# Altium footprint library SWITCH_TACT_PUSHB.PcbLib: 55 footprints (part 3 of 4)
Each footprint in its own frame and in the unit in brackets; x right, y up, seen from the top. Pads: shape width x height; smd on the part's side, far side on the other; paste and mask are expansions set on the pad; w line width, h text height; cw(c..) or ccw(c..) is an arc to the next point about the centre after c.
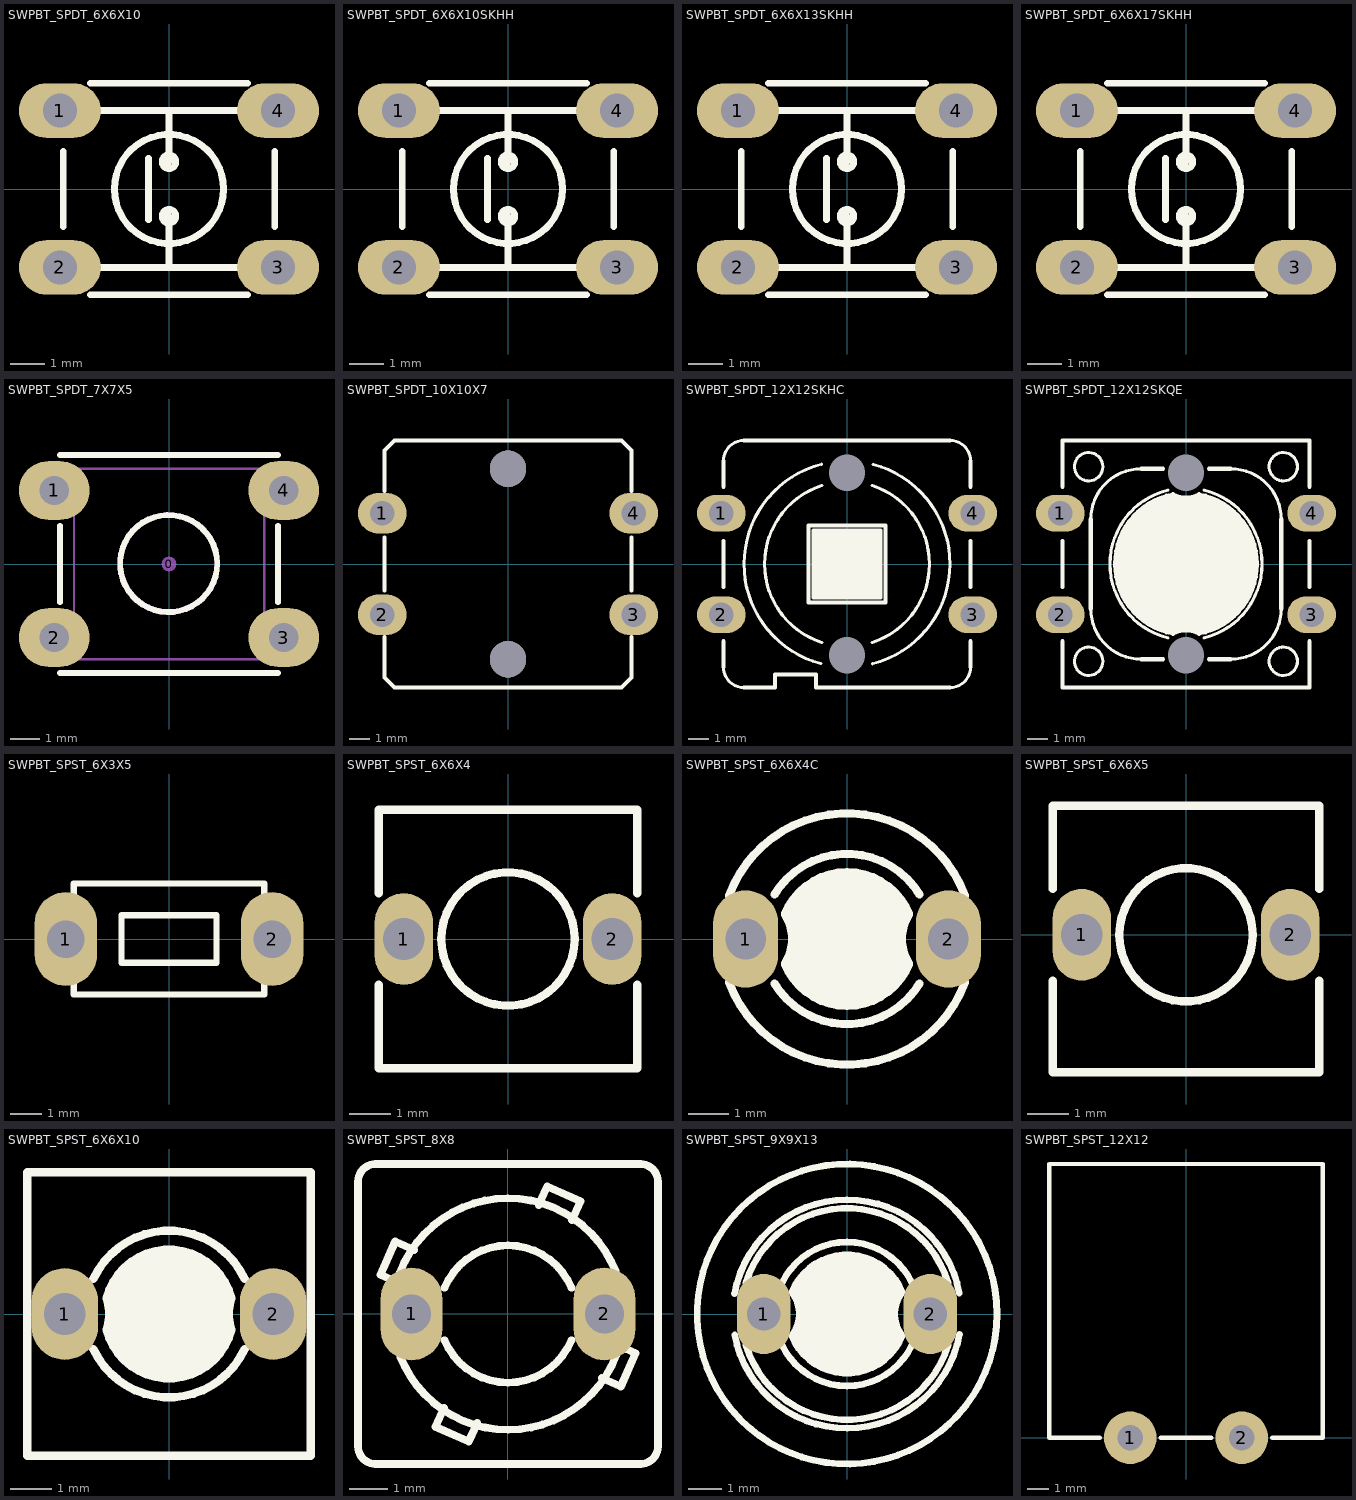
[diagram p2: the footprints below, top view; thin cyan lines are the x and y axes]

## SWPBT_SPDT_6X6X10 [mm] "SWITCH, PUSHBUTTON, THD, SPDT,"
pads (4):
  oval 2.4x1.6 hole 1 mask+0.1: 1(-3.2,2.3) 2(-3.2,-2.3) 3(3.2,-2.3) 4(3.2,2.3)
Top Overlay:
  circle w0.2: c0,-0.8 r0.2
  circle w0.2: c0,0.8 r0.2
  circle w0.2: c0,0 r1.6
  lines w0.2: -3.1,-1.1 -3.1,1.1 ; -2.3,-3.1 2.3,-3.1 ; -2.3,3.1 2.3,3.1 ; -2,-2.3 2,-2.3 ; -2,2.3 2,2.3 ; -0.6,-0.9 -0.6,0.9 ; 0,-2.3 0,-0.8 ; 0,0.8 0,2.3 ; 3.1,-1.1 3.1,1.1
3D body "SW3dPS-Panasonic-EVQPA-Pushbutton.STEP": height 9.5, standoff -3.5, extent -4.106,-3 4.106,3

## SWPBT_SPDT_6X6X10SKHH [mm] "SWITCH, PUSHBUTTON, THD, SPDT, 6X6X9.5 mm Height ; 1,000,000 cycles ; 0.98N Force, SKHHANA010"
height 9.5
pads (4):
  oval 2.4x1.6 hole 1 mask+0.1: 1(-3.2,2.3) 2(-3.2,-2.3) 3(3.2,-2.3) 4(3.2,2.3)
Top Overlay:
  circle w0.2: c0,-0.8 r0.2
  circle w0.2: c0,0.8 r0.2
  circle w0.2: c0,0 r1.6
  lines w0.2: -3.1,-1.1 -3.1,1.1 ; -2.3,-3.1 2.3,-3.1 ; -2.3,3.1 2.3,3.1 ; -2,-2.3 2,-2.3 ; -2,2.3 2,2.3 ; -0.6,-0.9 -0.6,0.9 ; 0,-2.3 0,-0.8 ; 0,0.8 0,2.3 ; 3.1,-1.1 3.1,1.1
3D body "SKHHAN.STEP": height 9.53, standoff -3.47, extent -3.95,-3.1 3.95,3.1

## SWPBT_SPDT_6X6X13SKHH [mm] "SWITCH, PUSHBUTTON, THD, SPDT, 6X6X13.0 mm Height; 1,000,000 cycles ; 0.98N Force, SKHHDTA010"
height 13
pads (4):
  oval 2.4x1.6 hole 1 mask+0.1: 1(-3.2,2.3) 2(-3.2,-2.3) 3(3.2,-2.3) 4(3.2,2.3)
Top Overlay:
  circle w0.2: c0,-0.8 r0.2
  circle w0.2: c0,0.8 r0.2
  circle w0.2: c0,0 r1.6
  lines w0.2: -3.1,-1.1 -3.1,1.1 ; -2.3,-3.1 2.3,-3.1 ; -2.3,3.1 2.3,3.1 ; -2,-2.3 2,-2.3 ; -2,2.3 2,2.3 ; -0.6,-0.9 -0.6,0.9 ; 0,-2.3 0,-0.8 ; 0,0.8 0,2.3 ; 3.1,-1.1 3.1,1.1
3D body "SKHHDT.STEP": height 13.03, standoff -3.47, extent -3.95,-3.1 3.95,3.1

## SWPBT_SPDT_6X6X17SKHH [mm] "SWITCH, PUSHBUTTON, THD, SPDT, 6X6X17.0 mm Height ; 500,000 cycles ; 0.98N Force, SKHHDHA010"
height 17
pads (4):
  oval 2.4x1.6 hole 1 mask+0.1: 1(-3.2,2.3) 2(-3.2,-2.3) 3(3.2,-2.3) 4(3.2,2.3)
Top Overlay:
  circle w0.2: c0,-0.8 r0.2
  circle w0.2: c0,0.8 r0.2
  circle w0.2: c0,0 r1.6
  lines w0.2: -3.1,-1.1 -3.1,1.1 ; -2.3,-3.1 2.3,-3.1 ; -2.3,3.1 2.3,3.1 ; -2,-2.3 2,-2.3 ; -2,2.3 2,2.3 ; -0.6,-0.9 -0.6,0.9 ; 0,-2.3 0,-0.8 ; 0,0.8 0,2.3 ; 3.1,-1.1 3.1,1.1
3D body "SKHHDH.STEP": height 17.03, standoff -3.47, extent -3.95,-3.1 3.95,3.1

## SWPBT_SPDT_7X7X5 [mm] "SWITCH, PUSHBUTTON, THD, SPDT, 7.2X7.2mm, TC-37XB"
height 5
pads (5):
  round 0.508 on Mech15 mask+0.1: 0(0,0)
  oval 2.4x2 hole 1 mask+0.1: 1(-3.9,2.5) 2(-3.9,-2.5) 3(3.9,-2.5) 4(3.9,2.5)
Top Overlay:
  circle w0.2: c-0.011,0.014 r1.65
  lines w0.2: -3.7,-3.7 3.7,-3.7 ; -3.7,-1.3 -3.7,1.3 ; -3.7,3.7 3.7,3.7 ; 3.7,-1.3 3.7,1.3
Mechanical 13:
  circle w0.2: c-0.011,0.014 r1.65
  lines w0.076: -3.232,-3.237 -3.232,3.24 3.24,3.24 3.24,-3.237 -3.232,-3.237
3D body "TC-37XB.stp": height 5, standoff -3.9, extent -4.456,-3.6 4.456,3.6

## SWPBT_SPDT_10X10X7 [mm] "SWITCH, PUSHBUTTON, THD, SPDT,"
pads (6):
  oval 2.4x2 hole 1.2 mask+0.1: 1(-6.2,2.5) 2(-6.2,-2.5) 3(6.2,-2.5) 4(6.2,2.5)
  round 1.8 hole 1.8 unplated: ""(0,-4.7) ""(0,4.7)
Top Overlay:
  lines w0.2: -6.1,-3.6 -6.1,-5.6 -5.6,-6.1 5.6,-6.1 6.1,-5.6 6.1,-3.6 ; -6.1,-1.3 -6.1,1.3 ; -6.1,3.6 -6.1,5.6 -5.6,6.1 5.6,6.1 6.1,5.6 6.1,3.6 ; 6.1,-1.3 6.1,1.3
3D body "User Library-SWT9-1.STEP": height 7.3, standoff -3.5, extent -6.5,-6 6.5,6

## SWPBT_SPDT_12X12SKHC [mm] "SWITCH, PUSHBUTTON, THD, SPDT, 12X12X7.3 mm ; 1,000,000 cycles ; 1.27N Force, SKHCBEA010"
height 7.3
pads (6):
  oval 2.4x1.8 hole 1.2 mask+0.1: 1(-6.2,2.5) 2(-6.2,-2.5) 3(6.2,-2.5) 4(6.2,2.5)
  round 0 hole 1.8 unplated mask+0.1: ""(0,-4.5) ""(0,4.5)
Top Overlay:
  region: -1.651,-1.651 -1.651,1.651 1.651,1.651 1.651,-1.651
  lines w0.152: -6.096,-5.08 ccw(c-5.08,-5.08) -5.08,-6.096 ; -6.096,5.08 cw(c-5.08,5.08) -5.08,6.096 ; -1.293,-4.913 cw(c0,0) -1.262,4.921 ; -1.248,-3.868 cw(c0,0) -1.248,3.868 ; 1.248,-3.868 ccw(c0,0) 1.248,3.868 ; 1.262,-4.921 ccw(c0,0) 1.293,4.913 ; 5.08,-6.096 ccw(c5.08,-5.08) 6.096,-5.08 ; 5.08,6.096 cw(c5.08,5.08) 6.096,5.08
  lines w0.2: -6.096,-5.08 -6.096,-3.81 ; -6.096,-1.143 -6.096,1.143 ; -6.096,3.81 -6.096,5.08 ; -5.08,-6.096 -3.556,-6.096 -3.556,-5.461 -1.524,-5.461 -1.524,-6.096 5.08,-6.096 ; -5.08,6.096 5.08,6.096 ; 6.096,-5.08 6.096,-3.81 ; 6.096,-1.143 6.096,1.143 ; 6.096,3.81 6.096,5.08 ; -1.905,-1.905 -1.905,1.905 1.905,1.905 1.905,-1.905 -1.905,-1.905 ; -1.651,-1.651 -1.651,1.651 1.651,1.651 1.651,-1.651 -1.651,-1.651
3D body "SKHCBJ.STEP": height 7.33, standoff -3.47, extent -7,-6 7,6

## SWPBT_SPDT_12X12SKQE [mm] "SWITCH, PUSHBUTTON, THD, SPDT, 12X12X4.3 mm ; 10,000,000 cycles ; 1.57N Force, SKQEABA010"
height 4.3
pads (6):
  oval 2.4x1.8 hole 1.2 mask+0.1: 1(-6.2,2.5) 2(-6.2,-2.5) 3(6.2,-2.5) 4(6.2,2.5)
  round 0 hole 1.8 unplated mask+0.1: ""(0,-4.5) ""(0,4.5)
Top Overlay:
  circle w0.152: c4.8,4.8 r0.7
  circle w0.152: c-4.8,4.8 r0.7
  circle w0.152: c-4.8,-4.8 r0.7
  circle w0.152: c4.8,-4.8 r0.7
  region: -0.637,-3.441 -0.876,-3.397 -1.338,-3.243 -1.774,-3.027 -2.175,-2.753 -2.535,-2.425 -2.846,-2.051 -3.103,-1.638 -3.299,-1.193 -3.433,-0.725 -3.5,-0.243 -3.5,0.243 -3.433,0.725 -3.299,1.193 -3.103,1.638 -2.846,2.051 -2.535,2.425 -2.175,2.753 -1.774,3.027 -1.338,3.243 -0.876,3.397 -0.637,3.441 -0.488,3.365 -0.167,3.276 0.167,3.276 0.488,3.365 0.637,3.441 0.876,3.397 1.338,3.243 1.774,3.027 2.175,2.753 2.535,2.425 2.846,2.051 3.103,1.638 3.299,1.193 3.433,0.725 3.5,0.243 3.5,-0.243 3.433,-0.725 3.299,-1.193 3.103,-1.638 2.846,-2.051 2.535,-2.425 2.175,-2.753 1.774,-3.027 1.338,-3.243 0.876,-3.397 0.637,-3.441 0.488,-3.365 0.167,-3.276 -0.167,-3.276 -0.488,-3.365
  lines w0.152: -4.7,-2.2 ccw(c-2.2,-2.2) -2.2,-4.7 ; -4.7,2.2 cw(c-2.2,2.2) -2.2,4.7 ; -0.88,-3.645 cw(c0,0) -0.88,3.645 ; 0.88,-3.645 ccw(c0,0) 0.88,3.645 ; 2.2,-4.7 ccw(c2.2,-2.2) 4.7,-2.2 ; 2.2,4.7 cw(c2.2,2.2) 4.7,2.2
  lines w0.2: -6.096,-3.81 -6.096,-6.096 6.096,-6.096 6.096,-3.81 ; -6.096,-1.143 -6.096,1.143 ; -6.096,3.81 -6.096,6.096 6.096,6.096 6.096,3.81 ; -4.7,-2.2 -4.7,2.2 ; -2.2,-4.7 -1.143,-4.7 ; -2.2,4.7 -1.143,4.7 ; 1.143,-4.7 2.2,-4.7 ; 1.143,4.7 2.2,4.7 ; 4.7,-2.2 4.7,2.2 ; 6.096,-1.143 6.096,1.143 ; -0.637,-3.441 cw(c0,0) -0.637,3.441 ccw(c0,4.5) 0.637,3.441 cw(c0,0) 0.637,-3.441 ccw(c0,-4.5) -0.637,-3.441
3D body "SKQEAB.STEP": height 4.33, standoff -3.47, extent -7,-6 7,6

## SWPBT_SPST_6X3X5 [mm] "SWITCH, PUSHBUTTON, THD, SPST, 6X3.5mm"
pads (2):
  oval 2x3 hole 1.2 mask+0.1: 1(-3.3,0) 2(3.3,0)
Top Overlay:
  lines w0.2: -3.048,-1.778 -3.048,1.778 3.048,1.778 3.048,-1.778 -3.048,-1.778 ; -1.524,-0.762 -1.524,0.762 1.524,0.762 1.524,-0.762 -1.524,-0.762
3D body "43408.stp": height 4.3, standoff -3.5, extent -3.909,-1.75 3.91,1.75

## SWPBT_SPST_6X6X4 [mm] "SWITCH, PUSHBUTTON, THD, SPST, 6X6mm"
height 4
pads (2):
  oval 1.4x2.2 hole 1 mask+0.1: 1(-2.5,0) 2(2.5,0)
Top Overlay:
  circle w0.2: c0,0 r1.6
  lines w0.2: -3.1,-1.1 -3.1,-3.1 3.1,-3.1 3.1,-1.1 ; -3.1,1.1 -3.1,3.1 3.1,3.1 3.1,1.1
3D body "Tactile Switch (6mm x 6mm_2pin.STEP": height 4.3, standoff -14, extent -3,-3 3,3.2

## SWPBT_SPST_6X6X4C [mm] "SWITCH, PUSHBUTTON, THD, SPST, 6X6X4.3mm ; 500,000 cycles ; 1.27N Force, SKRGAAD010"
height 4.3
pads (2):
  oval 1.6x2.4 hole 1 mask+0.1: 1(-2.5,0) 2(2.5,0)
Top Overlay:
  region: -1.533,-0.613 -1.456,-0.471 -1.366,-0.161 -1.366,0.161 -1.456,0.471 -1.533,0.613 -1.472,0.766 -1.292,1.041 -1.062,1.275 -0.79,1.459 -0.486,1.586 -0.164,1.651 0.164,1.651 0.486,1.586 0.79,1.459 1.062,1.275 1.292,1.041 1.472,0.766 1.533,0.613 1.456,0.471 1.366,0.161 1.366,-0.161 1.456,-0.471 1.533,-0.613 1.472,-0.766 1.292,-1.041 1.062,-1.275 0.79,-1.459 0.486,-1.586 0.164,-1.651 -0.164,-1.651 -0.486,-1.586 -0.79,-1.459 -1.062,-1.275 -1.292,-1.041 -1.472,-0.766
  lines w0.2: -2.912,-1.059 ccw(c0,0) 2.912,-1.059 ; -2.912,1.059 cw(c0,0) 2.912,1.059 ; -1.789,-1.1 ccw(c0,0) 1.789,-1.1 ; -1.789,1.1 cw(c0,0) 1.789,1.1 ; -1.533,-0.613 ccw(c-2.5,0) -1.533,0.613 cw(c0,0) 1.533,0.613 ccw(c2.5,0) 1.533,-0.613 cw(c0,0) -1.533,-0.613
3D body "SKRGAA.STEP": height 4.33, standoff -3.47, extent -3.159,-3.099 3.16,3.099

## SWPBT_SPST_6X6X5 [mm] "SWITCH, PUSHBUTTON, THD, SPST,"
pads (2):
  oval 1.4x2.2 hole 1 mask+0.1: 1(-2.5,0) 2(2.5,0)
Top Overlay:
  circle w0.2: c0,0 r1.6
  lines w0.2: -3.2,-1.1 -3.2,-3.3 3.2,-3.3 3.2,-1.1 ; -3.2,1.1 -3.2,3.1 3.2,3.1 3.2,1.1
3D body "82574 tact switch.stp": height 5, standoff -5.08, extent -3.117,-3.2 3.117,3.029

## SWPBT_SPST_6X6X10 [mm] "SWITCH, PUSHBUTTON, THD, SPST, 6X6X9.5 mm ; 200,000 cycles ; 0.98N Force, SKQKAJD010"
height 9.5
pads (2):
  oval 1.6x2.2 hole 1 mask+0.1: 1(-2.5,0) 2(2.5,0)
Top Overlay:
  region: -1.499,-0.375 -1.469,-0.284 -1.435,-0.096 -1.435,0.096 -1.469,0.284 -1.499,0.375 -1.457,0.541 -1.303,0.847 -1.086,1.112 -0.816,1.323 -0.506,1.47 -0.171,1.545 0.171,1.545 0.506,1.47 0.816,1.323 1.086,1.112 1.303,0.847 1.457,0.541 1.499,0.375 1.469,0.284 1.435,0.096 1.435,-0.096 1.469,-0.284 1.499,-0.375 1.457,-0.541 1.303,-0.847 1.086,-1.112 0.816,-1.323 0.506,-1.47 0.171,-1.545 -0.171,-1.545 -0.506,-1.47 -0.816,-1.323 -1.086,-1.112 -1.303,-0.847 -1.457,-0.541
  lines w0.2: -1.816,-0.838 ccw(c0,0) 1.816,-0.838 ; -1.816,0.838 cw(c0,0) 1.816,0.838 ; -3.4,-3.4 3.4,-3.4 3.4,3.4 -3.4,3.4 -3.4,-3.4 ; -1.499,-0.375 ccw(c-2.5,0) -1.499,0.375 cw(c0,0) 1.499,0.375 ccw(c2.5,0) 1.499,-0.375 cw(c0,0) -1.499,-0.375
3D body "SKQKAJ.STEP": height 9.53, standoff -3.47, extent -3.3,-3.3 3.3,3.3

## SWPBT_SPST_8X8 [mm] "SWITCH, PUSHBUTTON, THD, SPST, 8X8X5.5mm ; 100,000 cycles ; 2.45N Force, SKPDACD010"
height 5.5
pads (2):
  oval 1.6x2.4 hole 1 mask+0.1: 1(-2.5,0) 2(2.5,0)
Top Overlay:
  lines w0.2: -3.886,-3.429 ccw(c-3.429,-3.429) -3.429,-3.886 ; -3.886,3.429 cw(c-3.429,3.429) -3.429,3.886 ; -3.059,0.906 -3.302,1.016 -2.921,1.88 -2.435,1.659 ; -2.801,1.075 cw(c0,0) 2.795,1.091 ; -2.795,-1.091 ccw(c0,0) 2.801,-1.075 ; -1.659,-2.435 -1.88,-2.921 -1.016,-3.302 -0.795,-2.816 ; -1.643,-0.68 ccw(c0,0) 1.643,-0.68 ; -1.643,0.68 cw(c0,0) 1.643,0.68 ; 0.795,2.816 1.016,3.302 1.88,2.921 1.659,2.435 ; 2.435,-1.659 2.921,-1.88 3.302,-1.016 3.059,-0.906 ; 3.429,-3.886 ccw(c3.429,-3.429) 3.886,-3.429 ; 3.886,3.428 cw(c3.886,3.428) 3.886,3.429 ccw(c3.429,3.429) 3.429,3.886 ; 3.429,3.886 ccw(c3.429,3.886) 3.429,3.886
  lines w0.203: -3.886,-3.429 -3.886,3.429 ; -3.429,-3.886 3.429,-3.886 ; -3.429,3.886 3.429,3.886 ; 3.886,-3.429 3.886,3.428
3D body "SKPDAC.STEP": height 5.53, standoff -3.47, extent -3.9,-4.1 3.9,3.9

## SWPBT_SPST_9X9X13 [mm] "SWITCH, PUSHBUTTON, THD, SPST, 9X9X13 mm ; 100,000 cycles ; 1.57N Force, SKRCACD010"
height 13
pads (2):
  oval 1.6x2.4 hole 1 mask+0.1: 1(-2.5,0) 2(2.5,0)
Top Overlay:
  circle w0.2: c0,0 r4.5
  region: -1.656,-0.653 -1.605,-0.581 -1.522,-0.427 -1.466,-0.261 -1.437,-0.088 -1.437,0.087 -1.465,0.26 -1.522,0.426 -1.605,0.58 -1.655,0.652 -1.654,0.653 -1.589,0.818 -1.396,1.116 -1.147,1.37 -0.854,1.57 -0.527,1.707 -0.179,1.778 0.176,1.778 0.524,1.708 0.852,1.571 1.145,1.371 1.394,1.118 1.587,0.82 1.653,0.655 1.656,0.653 1.605,0.581 1.522,0.427 1.466,0.261 1.437,0.088 1.437,-0.087 1.465,-0.26 1.522,-0.426 1.605,-0.58 1.655,-0.652 1.654,-0.653 1.589,-0.818 1.396,-1.116 1.147,-1.37 0.854,-1.57 0.527,-1.707 0.179,-1.778 -0.176,-1.778 -0.524,-1.708 -0.852,-1.571 -1.145,-1.371 -1.394,-1.118 -1.587,-0.82 -1.653,-0.655
  lines w0.2: -3.373,0.617 cw(c0,0) 3.371,0.628 ; -3.371,-0.628 ccw(c0,0) 3.373,-0.617 ; -3.038,0.924 cw(c0,0) 3.037,0.926 ; -3.037,-0.926 ccw(c0,0) 3.038,-0.924 ; -1.954,-0.919 ccw(c0,0) 1.953,-0.92 ; -1.953,0.92 cw(c0,0) 1.954,0.919 ; -1.656,-0.653 ccw(c-2.5,0) -1.655,0.652 ; -1.654,0.653 cw(c0,0) 1.653,0.655 ; -1.653,-0.655 ccw(c0,0) 1.654,-0.653 ; 1.655,-0.652 cw(c2.5,0) 1.656,0.653
3D body "SKRCAC.STEP": height 13.03, standoff -3.47, extent -4.517,-4.5 4.517,4.5

## SWPBT_SPST_12X12 [mm] "SWITCH, PUSHBUTTON, THD, SPST, GPTS203212B (CW) 12x12x9.1mm"
height 9
pads (2):
  round 2.5 hole 1.2 mask+0.1: 1(-2.65,0) 2(2.65,0)
Top Overlay:
  lines w0.2: -4.1,0 -6.5,0 -6.5,13 6.5,13 6.5,0 4.1,0 ; -1.2,0 1.2,0
3D body: height 6.5, standoff 0, extent -6,0 6,12
3D body: height 9.1, standoff 0, extent -2.7,3.3 2.7,8.7